# EAGLE library part 691311400107 (library Terminal Blocks)
7.62MM CLOSE VERTICAL PCB HEADER WR-TBL Manufacturer's datasheet <https://katalog.we-online.com/em/datasheet/6913114001xx.pdf>
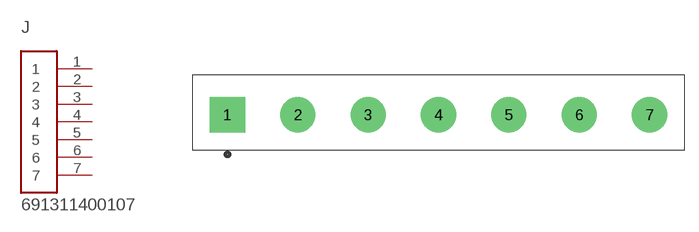
[diagram p4: symbol with the pads of TERMINALBLOCK_PLUGGABLE-7-7.62MM; footprint TERMINALBLOCK_PLUGGABLE-7-7.62MM]

Designator prefix J

## 691311400107 (CREATED_BY: PCBLayout.com; MANUFACTURER: WURTH ELEKTRONIK; MPN: 691311400107)  [TERMINALBLOCK_PLUGGABLE-7-7.62MM]
1  1  pas
2  2  pas
3  3  pas
4  4  pas
5  5  pas
6  6  pas
7  7  pas

## Footprint TERMINALBLOCK_PLUGGABLE-7-7.62MM (pad centres in mm)
drill 1.6 pad 3.81 square: 1 -22.86,0
drill 1.6 pad 3.81: 2 -15.24,0; 3 -7.62,0; 4 0,0; 5 7.62,0; 6 15.24,0; 7 22.86,0